# EAGLE library part MINI-SO (library smd-special)
Mini-SO generic format
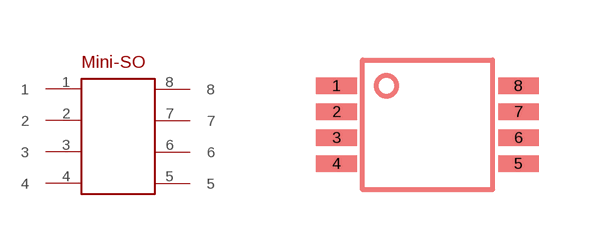
[diagram p0: symbol with the pads of MINI-SO; footprint MINI-SO]

Designator prefix -

## MINI-SO  [MINI-SO]
1  1
2  2
3  3
4  4
5  5
6  6
7  7
8  8

## Footprint MINI-SO (pad centres in mm)
Used for National Voltage Regulators
smd 1.02 x 0.41: 1 0,0; 2 0,-0.65; 3 0,-1.3; 4 0,-1.95; 5 4.55,-1.95; 6 4.55,-1.3; 7 4.55,-0.65; 8 4.55,0